# Altium footprint library aiskylab-08Optoelectronics.PcbLib: 57 footprints (part 2 of 4)
Each footprint in its own frame and in the unit in brackets; x right, y up, seen from the top. Pads: shape width x height; smd on the part's side, far side on the other; paste and mask are expansions set on the pad; w line width, h text height; cw(c..) or ccw(c..) is an arc to the next point about the centre after c.
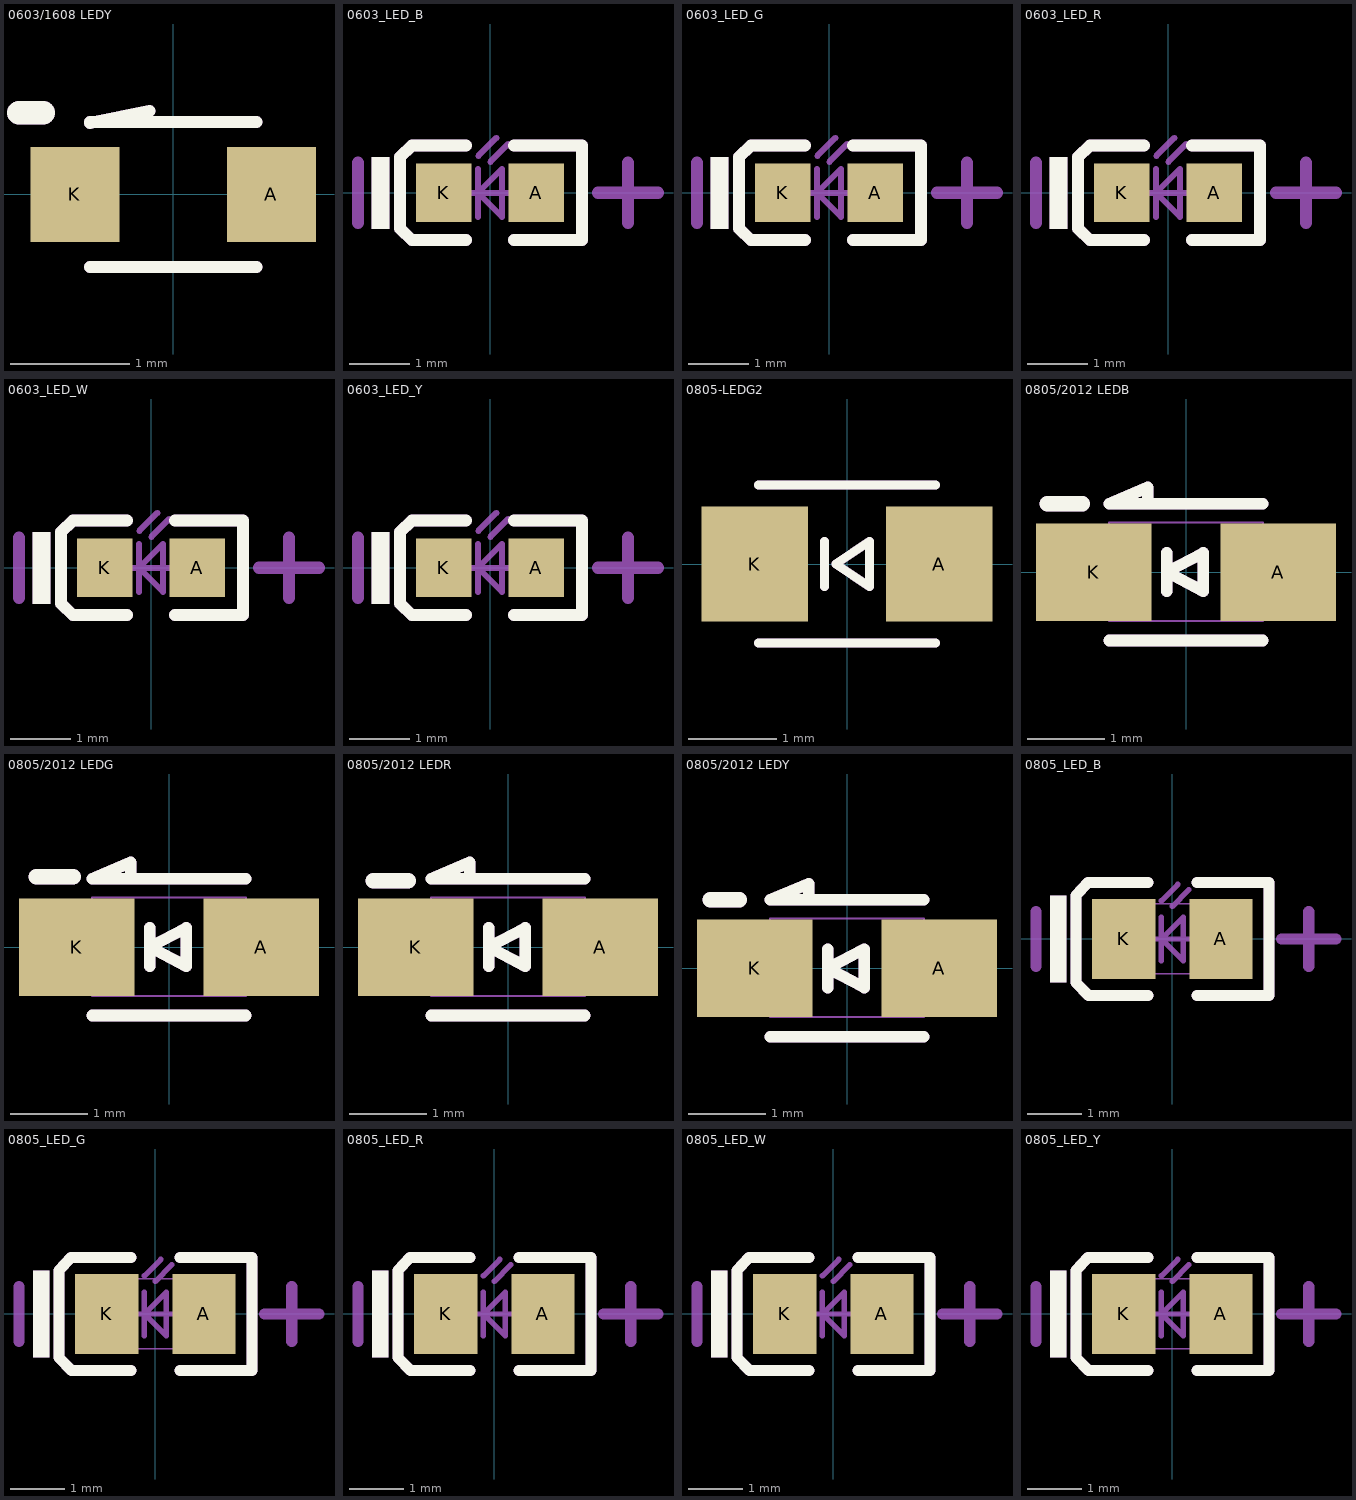
[diagram p1: the footprints below, top view; thin cyan lines are the x and y axes]

## 0603/1608 LEDY [mm]
height 3.1
pads (2):
  rect 0.75x0.8 smd: A(0.826,0) K(-0.826,0)
Top Overlay:
  lines w0.1: -0.7,-0.61 0.7,-0.61 ; -0.7,0.6 -0.2,0.7 ; -0.7,0.61 0.7,0.61
  lines w0.2: -1.295,0.686 -1.092,0.686
Top Designator:
  text ".Designator" at -7.664,-0.445 h1.52
Top Assembly:
  lines w0.1: -0.7,-0.61 0.7,-0.61 ; -0.7,0.6 -0.2,0.7 ; -0.7,0.61 0.7,0.61
  lines w0.2: -1.295,0.686 -1.092,0.686
Top Component Outline:
  lines w0.1: -0.7,-0.61 0.7,-0.61 ; -0.7,0.6 -0.2,0.7 ; -0.7,0.61 0.7,0.61
  lines w0.2: -1.295,0.686 -1.092,0.686
3D body "0_8128-0_762-0603.stp": height 0.02, standoff 0, extent -1.207,-0.406 -0.445,0.407
3D body "0_8128-0_762-0603.stp": height 0.02, standoff 0, extent 0.444,-0.406 1.206,0.406
3D body "0603-led-y.stp": height 0.79, standoff 0, extent -0.8,-0.4 0.8,0.4

## 0603_LED_B [mm]
pads (2):
  rect 0.93x0.98 smd: A(0.77,0) K(-0.77,0)
Top Overlay:
  rectangle: -1.975,-0.6 -1.675,0.6
  lines w0.2: -0.4,-0.79 -1.3,-0.79 -1.5,-0.597 -1.5,0.597 -1.3,0.79 -0.4,0.79 ; 0.4,-0.79 1.535,-0.79 1.535,0.79 0.4,0.79
Top Designator:
  text ".Designator" at -7.318,-0.469 h1.52
Top Assembly:
  rectangle: -1.975,-0.6 -1.675,0.6
  lines w0.2: -0.4,-0.79 -1.3,-0.79 -1.5,-0.597 -1.5,0.597 -1.3,0.79 -0.4,0.79 ; 0.4,-0.79 1.535,-0.79 1.535,0.79 0.4,0.79
  lines w0.203: -2.2,-0.5 -2.2,0.5 ; 1.8,0 2.8,0 ; 2.3,-0.5 2.3,0.5
Top Component Outline:
  rectangle: -1.975,-0.6 -1.675,0.6
  lines w0.2: -0.4,-0.79 -1.3,-0.79 -1.5,-0.597 -1.5,0.597 -1.3,0.79 -0.4,0.79 ; 0.4,-0.79 1.535,-0.79 1.535,0.79 0.4,0.79
Top 3D Body:
  lines w0.1: -0.4,0 0.4,0 ; -0.2,-0.4 -0.2,0.4 ; -0.195,0.617 0.105,0.917 ; 0.005,0.517 0.305,0.817 ; -0.2,0 0.2,-0.4 0.2,0.4 -0.2,0
3D body "0_8128-0_762-0603.stp": height 0.02, standoff 0, extent -1.207,-0.406 -0.445,0.407
3D body "0_8128-0_762-0603.stp": height 0.02, standoff 0, extent 0.444,-0.406 1.206,0.406
3D body "0603-ledb.stp": height 0.35, standoff 0, extent -0.8,-0.4 0.8,0.4

## 0603_LED_G [mm]
pads (2):
  rect 0.93x0.98 smd: A(0.77,0) K(-0.77,0)
Top Overlay:
  rectangle: -1.975,-0.6 -1.675,0.6
  lines w0.2: -0.4,-0.79 -1.3,-0.79 -1.5,-0.597 -1.5,0.597 -1.3,0.79 -0.4,0.79 ; 0.4,-0.79 1.535,-0.79 1.535,0.79 0.4,0.79
Top Designator:
  text ".Designator" at -7.318,-0.469 h1.52
Top Assembly:
  rectangle: -1.975,-0.6 -1.675,0.6
  lines w0.2: -0.4,-0.79 -1.3,-0.79 -1.5,-0.597 -1.5,0.597 -1.3,0.79 -0.4,0.79 ; 0.4,-0.79 1.535,-0.79 1.535,0.79 0.4,0.79
  lines w0.203: -2.2,-0.5 -2.2,0.5 ; 1.8,0 2.8,0 ; 2.3,-0.5 2.3,0.5
Top Component Outline:
  rectangle: -1.975,-0.6 -1.675,0.6
  lines w0.2: -0.4,-0.79 -1.3,-0.79 -1.5,-0.597 -1.5,0.597 -1.3,0.79 -0.4,0.79 ; 0.4,-0.79 1.535,-0.79 1.535,0.79 0.4,0.79
Top 3D Body:
  lines w0.1: -0.4,0 0.4,0 ; -0.2,-0.4 -0.2,0.4 ; -0.195,0.617 0.105,0.917 ; 0.005,0.517 0.305,0.817 ; -0.2,0 0.2,-0.4 0.2,0.4 -0.2,0
3D body "0_8128-0_762-0603.stp": height 0.02, standoff 0, extent -1.207,-0.406 -0.445,0.407
3D body "0_8128-0_762-0603.stp": height 0.02, standoff 0, extent 0.444,-0.406 1.206,0.406
3D body "0603-ledg.stp": height 0.35, standoff 0, extent -0.8,-0.4 0.8,0.4

## 0603_LED_R [mm]
pads (2):
  rect 0.93x0.98 smd: A(0.77,0) K(-0.77,0)
Top Overlay:
  rectangle: -1.975,-0.6 -1.675,0.6
  lines w0.2: -0.4,-0.79 -1.3,-0.79 -1.5,-0.597 -1.5,0.597 -1.3,0.79 -0.4,0.79 ; 0.4,-0.79 1.535,-0.79 1.535,0.79 0.4,0.79
Top Designator:
  text ".Designator" at -7.318,-0.469 h1.52
Top Assembly:
  rectangle: -1.975,-0.6 -1.675,0.6
  lines w0.2: -0.4,-0.79 -1.3,-0.79 -1.5,-0.597 -1.5,0.597 -1.3,0.79 -0.4,0.79 ; 0.4,-0.79 1.535,-0.79 1.535,0.79 0.4,0.79
  lines w0.203: -2.2,-0.5 -2.2,0.5 ; 1.8,0 2.8,0 ; 2.3,-0.5 2.3,0.5
Top Component Outline:
  rectangle: -1.975,-0.6 -1.675,0.6
  lines w0.2: -0.4,-0.79 -1.3,-0.79 -1.5,-0.597 -1.5,0.597 -1.3,0.79 -0.4,0.79 ; 0.4,-0.79 1.535,-0.79 1.535,0.79 0.4,0.79
Top 3D Body:
  lines w0.1: -0.4,0 0.4,0 ; -0.2,-0.4 -0.2,0.4 ; -0.195,0.617 0.105,0.917 ; 0.005,0.517 0.305,0.817 ; -0.2,0 0.2,0.4 0.2,-0.4 -0.2,0
3D body "0_8128-0_762-0603.stp": height 0.02, standoff 0, extent -1.207,-0.406 -0.445,0.407
3D body "0_8128-0_762-0603.stp": height 0.02, standoff 0, extent 0.444,-0.406 1.206,0.406
3D body "User Library-LED_0603_R.STEP": height 0.6, standoff 0, extent -0.8,-0.4 0.8,0.4

## 0603_LED_W [mm]
pads (2):
  rect 0.93x0.98 smd: A(0.77,0) K(-0.77,0)
Top Overlay:
  rectangle: -1.975,-0.6 -1.675,0.6
  lines w0.2: -0.4,-0.79 -1.3,-0.79 -1.5,-0.597 -1.5,0.597 -1.3,0.79 -0.4,0.79 ; 0.4,-0.79 1.535,-0.79 1.535,0.79 0.4,0.79
Top Designator:
  text ".Designator" at -7.318,-0.469 h1.52
Top Assembly:
  rectangle: -1.975,-0.6 -1.675,0.6
  lines w0.2: -0.4,-0.79 -1.3,-0.79 -1.5,-0.597 -1.5,0.597 -1.3,0.79 -0.4,0.79 ; 0.4,-0.79 1.535,-0.79 1.535,0.79 0.4,0.79
  lines w0.203: -2.2,-0.5 -2.2,0.5 ; 1.8,0 2.8,0 ; 2.3,-0.5 2.3,0.5
Top Component Outline:
  rectangle: -1.975,-0.6 -1.675,0.6
  lines w0.2: -0.4,-0.79 -1.3,-0.79 -1.5,-0.597 -1.5,0.597 -1.3,0.79 -0.4,0.79 ; 0.4,-0.79 1.535,-0.79 1.535,0.79 0.4,0.79
Top 3D Body:
  lines w0.1: -0.4,0 0.4,0 ; -0.2,-0.4 -0.2,0.4 ; -0.195,0.617 0.105,0.917 ; 0.005,0.517 0.305,0.817 ; -0.2,0 0.2,0.4 0.2,-0.4 -0.2,0
3D body "0_8128-0_762-0603.stp": height 0.02, standoff 0, extent -1.207,-0.406 -0.445,0.407
3D body "0_8128-0_762-0603.stp": height 0.02, standoff 0, extent 0.444,-0.406 1.206,0.406
3D body "User Library-LED SMD0603-W.step": height 0.68, standoff 0, extent -0.833,-0.357 0.817,0.368

## 0603_LED_Y [mm]
pads (2):
  rect 0.93x0.98 smd: A(0.77,0) K(-0.77,0)
Top Overlay:
  rectangle: -1.975,-0.6 -1.675,0.6
  lines w0.2: -0.4,-0.79 -1.3,-0.79 -1.5,-0.597 -1.5,0.597 -1.3,0.79 -0.4,0.79 ; 0.4,-0.79 1.535,-0.79 1.535,0.79 0.4,0.79
Top Designator:
  text ".Designator" at -7.318,-0.469 h1.52
Top Assembly:
  rectangle: -1.975,-0.6 -1.675,0.6
  lines w0.2: -0.4,-0.79 -1.3,-0.79 -1.5,-0.597 -1.5,0.597 -1.3,0.79 -0.4,0.79 ; 0.4,-0.79 1.535,-0.79 1.535,0.79 0.4,0.79
  lines w0.203: -2.2,-0.5 -2.2,0.5 ; 1.8,0 2.8,0 ; 2.3,-0.5 2.3,0.5
Top Component Outline:
  rectangle: -1.975,-0.6 -1.675,0.6
  lines w0.2: -0.4,-0.79 -1.3,-0.79 -1.5,-0.597 -1.5,0.597 -1.3,0.79 -0.4,0.79 ; 0.4,-0.79 1.535,-0.79 1.535,0.79 0.4,0.79
Top 3D Body:
  lines w0.1: -0.4,0 0.4,0 ; -0.2,-0.4 -0.2,0.4 ; -0.195,0.617 0.105,0.917 ; 0.005,0.517 0.305,0.817 ; -0.2,0 0.2,-0.4 0.2,0.4 -0.2,0
3D body "0_8128-0_762-0603.stp": height 0.02, standoff 0, extent -1.207,-0.406 -0.445,0.407
3D body "0_8128-0_762-0603.stp": height 0.02, standoff 0, extent 0.444,-0.406 1.206,0.406
3D body "0603-led-y.stp": height 0.79, standoff 0, extent -0.8,-0.4 0.8,0.4

## 0805-LEDG2 [mm]
height 3.1
pads (2):
  rect 1.2x1.3 smd: A(1.041,0) K(-1.041,0)
Top Overlay:
  lines w0.1: -0.254,-0.254 -0.254,0.254 ; -0.127,0 0.254,0.254 0.254,-0.254 -0.127,0
  lines w0.102: -1,-0.889 1,-0.889 ; -1,0.889 1,0.889
Top Designator:
  text ".Designator" at -7.618,-0.508 h1.52
Top Assembly:
  lines w0.1: -0.254,-0.254 -0.254,0.254 ; -0.127,0 0.254,0.254 0.254,-0.254 -0.127,0
  lines w0.102: -1,-0.889 1,-0.889 ; -1,0.889 1,0.889
Top Component Outline:
  lines w0.1: -0.254,-0.254 -0.254,0.254 ; -0.127,0 0.254,0.254 0.254,-0.254 -0.127,0
  lines w0.102: -1,-0.889 1,-0.889 ; -1,0.889 1,0.889
3D body "1206-led-g.stp": height 1.39, standoff 0, extent -1.6,-0.808 1.6,0.808

## 0805/2012 LEDB [mm]
height 3.1
pads (2):
  rect 1.5x1.27 smd: A(1.2,0)
  rect 1.5x1.27 smd mask+0.07: K(-1.2,0)
Top Overlay:
  lines w0.15: -1,-0.889 1,-0.889 ; -0.5,1.1 -1,0.889 ; -0.25,-0.25 -0.25,0.25 ; 1,0.889 -1,0.889 ; -1,0.889 -0.5,0.889 ; -0.5,0.889 -0.5,1.097 -0.5,0.889 ; -0.25,0 0.225,0.25 0.225,-0.25 -0.25,0
  lines w0.2: -1.803,0.889 -1.346,0.889
Top Designator:
  text ".Designator" at -7.602,-0.402 h1.52
Top Assembly:
  lines w0.15: -1,-0.889 1,-0.889 ; -0.5,1.1 -1,0.889 ; -0.25,-0.25 -0.25,0.25 ; 1,0.889 -1,0.889 ; -1,0.889 -0.5,0.889 ; -0.5,0.889 -0.5,1.097 -0.5,0.889 ; -0.25,0 0.225,0.25 0.225,-0.25 -0.25,0
  lines w0.2: -1.803,0.889 -1.346,0.889
Top Component Outline:
  lines w0.15: -1,-0.889 1,-0.889 ; -0.5,1.1 -1,0.889 ; -0.25,-0.25 -0.25,0.25 ; 1,0.889 -1,0.889 ; -1,0.889 -0.5,0.889 ; -0.5,0.889 -0.5,1.097 -0.5,0.889 ; -0.25,0 0.225,0.25 0.225,-0.25 -0.25,0
  lines w0.2: -1.803,0.889 -1.346,0.889
Top 3D Body:
  lines w0.025: -1.003,-0.635 -1.003,0.648 1.003,0.648 1.003,-0.635 -1.003,-0.635
3D body "0805B.stp": height 1.09, standoff 0, extent -1,-0.625 1,0.625
3D body "0805_1016_127.stp": height 0.01, standoff 0, extent -1.908,-0.635 -0.892,0.635
3D body "0805_1016_127.stp": height 0.01, standoff 0, extent 0.892,-0.635 1.908,0.635

## 0805/2012 LEDG [mm]
height 3.1
pads (2):
  rect 1.5x1.27 smd: A(1.2,0)
  rect 1.5x1.27 smd mask+0.07: K(-1.2,0)
Top Overlay:
  lines w0.15: -1,-0.889 1,-0.889 ; -0.5,1.1 -1,0.889 ; -0.25,-0.25 -0.25,0.25 ; 1,0.889 -1,0.889 ; -1,0.889 -0.5,0.889 ; -0.5,0.889 -0.5,1.097 -0.5,0.889 ; -0.25,0 0.225,0.25 0.225,-0.25 -0.25,0
  lines w0.2: -1.727,0.914 -1.245,0.914
Top Designator:
  text ".Designator" at -7.602,-0.402 h1.52
Top Assembly:
  lines w0.15: -1,-0.889 1,-0.889 ; -0.5,1.1 -1,0.889 ; -0.25,-0.25 -0.25,0.25 ; 1,0.889 -1,0.889 ; -1,0.889 -0.5,0.889 ; -0.5,0.889 -0.5,1.097 -0.5,0.889 ; -0.25,0 0.225,0.25 0.225,-0.25 -0.25,0
  lines w0.2: -1.727,0.914 -1.245,0.914
Top Component Outline:
  lines w0.15: -1,-0.889 1,-0.889 ; -0.5,1.1 -1,0.889 ; -0.25,-0.25 -0.25,0.25 ; 1,0.889 -1,0.889 ; -1,0.889 -0.5,0.889 ; -0.5,0.889 -0.5,1.097 -0.5,0.889 ; -0.25,0 0.225,0.25 0.225,-0.25 -0.25,0
  lines w0.2: -1.727,0.914 -1.245,0.914
Top 3D Body:
  lines w0.025: -1.003,-0.635 1.003,-0.635 1.003,0.648 -1.003,0.648 -1.003,-0.635
3D body "0805G.stp": height 1.09, standoff 0, extent -1,-0.625 1,0.625
3D body "0805_1016_127.stp": height 0.01, standoff 0, extent -1.916,-0.635 -0.9,0.635
3D body "0805_1016_127.stp": height 0.01, standoff 0, extent 0.892,-0.635 1.908,0.635

## 0805/2012 LEDR [mm]
height 3.1
pads (2):
  rect 1.5x1.27 smd: A(1.2,0)
  rect 1.5x1.27 smd mask+0.07: K(-1.2,0)
Top Overlay:
  lines w0.15: -1,-0.889 1,-0.889 ; -0.5,0.889 -0.5,1.097 ; -0.5,1.1 -1,0.889 1,0.889 ; -0.25,-0.25 -0.25,0.25 ; -0.25,0 0.225,-0.25 0.225,0.25 -0.25,0
  lines w0.2: -1.753,0.864 -1.295,0.864
Top Solder:
  lines w0.15: -1,0.889 -0.5,0.889 -0.5,1.097
Top Designator:
  text ".Designator" at -7.602,-0.402 h1.52
Top Assembly:
  lines w0.15: -1,-0.889 1,-0.889 ; -0.5,0.889 -0.5,1.097 ; -0.5,1.1 -1,0.889 1,0.889 ; -0.25,-0.25 -0.25,0.25 ; -0.25,0 0.225,-0.25 0.225,0.25 -0.25,0
  lines w0.2: -1.753,0.864 -1.295,0.864
Top Component Outline:
  lines w0.15: -1,-0.889 1,-0.889 ; -0.5,0.889 -0.5,1.097 ; -0.5,1.1 -1,0.889 1,0.889 ; -0.25,-0.25 -0.25,0.25 ; -0.25,0 0.225,-0.25 0.225,0.25 -0.25,0
  lines w0.2: -1.753,0.864 -1.295,0.864
Top 3D Body:
  lines w0.025: -1.003,-0.635 1.003,-0.635 1.003,0.648 -1.003,0.648 -1.003,-0.635
3D body "0805R.stp": height 1.09, standoff 0, extent -1,-0.625 1,0.625
3D body "0805_1016_127.stp": height 0.01, standoff 0, extent -1.908,-0.635 -0.892,0.635
3D body "0805_1016_127.stp": height 0.01, standoff 0, extent 0.892,-0.635 1.908,0.635

## 0805/2012 LEDY [mm]
height 3.1
pads (2):
  rect 1.5x1.27 smd: A(1.2,0)
  rect 1.5x1.27 smd mask+0.07: K(-1.2,0)
Top Overlay:
  lines w0.15: -1,-0.889 1,-0.889 ; -0.5,1.1 -1,0.889 ; -0.25,-0.25 -0.25,0.25 ; 1,0.889 -1,0.889 ; -1,0.889 -0.5,0.889 ; -0.5,0.889 -0.5,1.097 -0.5,0.889 ; -0.25,0 0.225,-0.25 0.225,0.25 -0.25,0
  lines w0.2: -1.778,0.889 -1.397,0.889
Top Designator:
  text ".Designator" at -7.602,-0.402 h1.52
Top Assembly:
  lines w0.15: -1,-0.889 1,-0.889 ; -0.5,1.1 -1,0.889 ; -0.25,-0.25 -0.25,0.25 ; 1,0.889 -1,0.889 ; -1,0.889 -0.5,0.889 ; -0.5,0.889 -0.5,1.097 -0.5,0.889 ; -0.25,0 0.225,-0.25 0.225,0.25 -0.25,0
  lines w0.2: -1.778,0.889 -1.397,0.889
Top Component Outline:
  lines w0.15: -1,-0.889 1,-0.889 ; -0.5,1.1 -1,0.889 ; -0.25,-0.25 -0.25,0.25 ; 1,0.889 -1,0.889 ; -1,0.889 -0.5,0.889 ; -0.5,0.889 -0.5,1.097 -0.5,0.889 ; -0.25,0 0.225,-0.25 0.225,0.25 -0.25,0
  lines w0.2: -1.778,0.889 -1.397,0.889
Top 3D Body:
  lines w0.025: -1.003,-0.635 1.003,-0.635 1.003,0.648 -1.003,0.648 -1.003,-0.635
3D body "0805h.stp": height 1.09, standoff 0, extent -1,-0.625 1,0.625
3D body "0805_1016_127.stp": height 0.01, standoff 0, extent -1.908,-0.635 -0.892,0.635
3D body "0805_1016_127.stp": height 0.01, standoff 0, extent 0.892,-0.635 1.908,0.635

## 0805_LED_B [mm]
pads (2):
  rect 1.16x1.47 smd: A(0.89,0) K(-0.89,0)
Top Overlay:
  rectangle: -2.245,-0.8 -1.945,0.8
  lines w0.2: -0.45,-1.035 -1.535,-1.035 -1.77,-0.8 -1.77,0.8 -1.55,1.035 -0.45,1.035 ; 0.45,-1.035 1.77,-1.035 1.77,1.035 0.45,1.035
Top Designator:
  text ".Designator" at -7.368,-0.508 h1.52
Top Assembly:
  rectangle: -2.245,-0.8 -1.945,0.8
  lines w0.2: -0.45,-1.035 -1.535,-1.035 -1.77,-0.8 -1.77,0.8 -1.55,1.035 -0.45,1.035 ; 0.45,-1.035 1.77,-1.035 1.77,1.035 0.45,1.035
  lines w0.203: -2.5,-0.5 -2.5,0.5 ; 2,0 3,0 ; 2.5,-0.5 2.5,0.5
Top Component Outline:
  rectangle: -2.245,-0.8 -1.945,0.8
  lines w0.2: -0.45,-1.035 -1.535,-1.035 -1.77,-0.8 -1.77,0.8 -1.55,1.035 -0.45,1.035 ; 0.45,-1.035 1.77,-1.035 1.77,1.035 0.45,1.035
Top 3D Body:
  lines w0.025: -1.003,-0.635 -1.003,0.648 1.003,0.648 1.003,-0.635 -1.003,-0.635
  lines w0.1: -0.4,0 0.4,0 ; -0.2,-0.4 -0.2,0.4 ; -0.2,0.7 0.1,1 ; 0,0.6 0.3,0.9 ; -0.2,0 0.2,0.4 0.2,-0.4 -0.2,0
3D body "0805B.stp": height 1.09, standoff 0, extent -1,-0.625 1,0.625
3D body "0805_1016_127.stp": height 0.01, standoff 0, extent -1.908,-0.635 -0.892,0.635
3D body "0805_1016_127.stp": height 0.01, standoff 0, extent 0.892,-0.635 1.908,0.635

## 0805_LED_G [mm]
pads (2):
  rect 1.16x1.47 smd: A(0.89,0) K(-0.89,0)
Top Overlay:
  rectangle: -2.245,-0.8 -1.945,0.8
  lines w0.2: -0.45,-1.035 -1.535,-1.035 -1.77,-0.8 -1.77,0.8 -1.55,1.035 -0.45,1.035 ; 0.45,-1.035 1.77,-1.035 1.77,1.035 0.45,1.035
Top Designator:
  text ".Designator" at -7.368,-0.508 h1.52
Top Assembly:
  rectangle: -2.245,-0.8 -1.945,0.8
  lines w0.2: -0.45,-1.035 -1.535,-1.035 -1.77,-0.8 -1.77,0.8 -1.55,1.035 -0.45,1.035 ; 0.45,-1.035 1.77,-1.035 1.77,1.035 0.45,1.035
  lines w0.203: -2.5,-0.5 -2.5,0.5 ; 2,0 3,0 ; 2.5,-0.5 2.5,0.5
Top Component Outline:
  rectangle: -2.245,-0.8 -1.945,0.8
  lines w0.2: -0.45,-1.035 -1.535,-1.035 -1.77,-0.8 -1.77,0.8 -1.55,1.035 -0.45,1.035 ; 0.45,-1.035 1.77,-1.035 1.77,1.035 0.45,1.035
Top 3D Body:
  lines w0.025: -1.003,-0.635 1.003,-0.635 1.003,0.648 -1.003,0.648 -1.003,-0.635
  lines w0.1: -0.4,0 0.4,0 ; -0.2,-0.4 -0.2,0.4 ; -0.2,0.7 0.1,1 ; 0,0.6 0.3,0.9 ; -0.2,0 0.2,-0.4 0.2,0.4 -0.2,0
3D body "0805G.stp": height 1.09, standoff 0, extent -1,-0.625 1,0.625
3D body "0805_1016_127.stp": height 0.01, standoff 0, extent -1.916,-0.635 -0.9,0.635
3D body "0805_1016_127.stp": height 0.01, standoff 0, extent 0.892,-0.635 1.908,0.635

## 0805_LED_R [mm]
pads (2):
  rect 1.16x1.47 smd: A(0.89,0) K(-0.89,0)
Top Overlay:
  rectangle: -2.245,-0.8 -1.945,0.8
  lines w0.2: -0.45,-1.035 -1.535,-1.035 -1.77,-0.8 -1.77,0.8 -1.55,1.035 -0.45,1.035 ; 0.45,-1.035 1.77,-1.035 1.77,1.035 0.45,1.035
Top Designator:
  text ".Designator" at -7.368,-0.508 h1.52
Top Assembly:
  rectangle: -2.245,-0.8 -1.945,0.8
  lines w0.2: -0.45,-1.035 -1.535,-1.035 -1.77,-0.8 -1.77,0.8 -1.55,1.035 -0.45,1.035 ; 0.45,-1.035 1.77,-1.035 1.77,1.035 0.45,1.035
  lines w0.203: -2.5,-0.5 -2.5,0.5 ; 2,0 3,0 ; 2.5,-0.5 2.5,0.5
Top Component Outline:
  rectangle: -2.245,-0.8 -1.945,0.8
  lines w0.2: -0.45,-1.035 -1.535,-1.035 -1.77,-0.8 -1.77,0.8 -1.55,1.035 -0.45,1.035 ; 0.45,-1.035 1.77,-1.035 1.77,1.035 0.45,1.035
Top 3D Body:
  lines w0.1: -0.4,0 0.4,0 ; -0.2,-0.4 -0.2,0.4 ; -0.2,0.7 0.1,1 ; 0,0.6 0.3,0.9 ; -0.2,0 0.2,-0.4 0.2,0.4 -0.2,0
3D body "0805_1016_127.stp": height 0.01, standoff 0, extent 0.892,-0.635 1.908,0.635
3D body "0805_1016_127.stp": height 0.01, standoff 0, extent -1.908,-0.635 -0.892,0.635
3D body "User Library-led_0805.step": height 1.1, standoff 0, extent -1.01,-0.625 1.01,0.625

## 0805_LED_W [mm]
pads (2):
  rect 1.16x1.47 smd: A(0.89,0) K(-0.89,0)
Top Overlay:
  rectangle: -2.245,-0.8 -1.945,0.8
  lines w0.2: -0.45,-1.035 -1.535,-1.035 -1.77,-0.8 -1.77,0.8 -1.55,1.035 -0.45,1.035 ; 0.45,-1.035 1.77,-1.035 1.77,1.035 0.45,1.035
Top Designator:
  text ".Designator" at -7.368,-0.508 h1.52
Top Assembly:
  rectangle: -2.245,-0.8 -1.945,0.8
  lines w0.2: -0.45,-1.035 -1.535,-1.035 -1.77,-0.8 -1.77,0.8 -1.55,1.035 -0.45,1.035 ; 0.45,-1.035 1.77,-1.035 1.77,1.035 0.45,1.035
  lines w0.203: -2.5,-0.5 -2.5,0.5 ; 2,0 3,0 ; 2.5,-0.5 2.5,0.5
Top Component Outline:
  rectangle: -2.245,-0.8 -1.945,0.8
  lines w0.2: -0.45,-1.035 -1.535,-1.035 -1.77,-0.8 -1.77,0.8 -1.55,1.035 -0.45,1.035 ; 0.45,-1.035 1.77,-1.035 1.77,1.035 0.45,1.035
Top 3D Body:
  lines w0.1: -0.4,0 0.4,0 ; -0.2,-0.4 -0.2,0.4 ; -0.2,0.7 0.1,1 ; 0,0.6 0.3,0.9 ; -0.2,0 0.2,-0.4 0.2,0.4 -0.2,0
3D body "User Library-LED SMD0805-W.step": height 0.85, standoff 0.01, extent -1.041,-0.447 1.022,0.46
3D body "0805_1016_127.stp": height 0.01, standoff 0, extent -1.908,-0.635 -0.892,0.635
3D body "0805_1016_127.stp": height 0.01, standoff 0, extent 0.892,-0.635 1.908,0.635

## 0805_LED_Y [mm]
pads (2):
  rect 1.16x1.47 smd: A(0.89,0) K(-0.89,0)
Top Overlay:
  rectangle: -2.245,-0.8 -1.945,0.8
  lines w0.2: -0.45,-1.035 -1.535,-1.035 -1.77,-0.8 -1.77,0.8 -1.55,1.035 -0.45,1.035 ; 0.45,-1.035 1.77,-1.035 1.77,1.035 0.45,1.035
Top Designator:
  text ".Designator" at -7.368,-0.508 h1.52
Top Assembly:
  rectangle: -2.245,-0.8 -1.945,0.8
  lines w0.2: -0.45,-1.035 -1.535,-1.035 -1.77,-0.8 -1.77,0.8 -1.55,1.035 -0.45,1.035 ; 0.45,-1.035 1.77,-1.035 1.77,1.035 0.45,1.035
  lines w0.203: -2.5,-0.5 -2.5,0.5 ; 2,0 3,0 ; 2.5,-0.5 2.5,0.5
Top Component Outline:
  rectangle: -2.245,-0.8 -1.945,0.8
  lines w0.2: -0.45,-1.035 -1.535,-1.035 -1.77,-0.8 -1.77,0.8 -1.55,1.035 -0.45,1.035 ; 0.45,-1.035 1.77,-1.035 1.77,1.035 0.45,1.035
Top 3D Body:
  lines w0.025: -1.003,-0.635 1.003,-0.635 1.003,0.648 -1.003,0.648 -1.003,-0.635
  lines w0.1: -0.4,0 0.4,0 ; -0.2,-0.4 -0.2,0.4 ; -0.2,0.7 0.1,1 ; 0,0.6 0.3,0.9 ; -0.2,0 0.2,-0.4 0.2,0.4 -0.2,0
3D body "0805h.stp": height 1.09, standoff 0, extent -1,-0.625 1,0.625
3D body "0805_1016_127.stp": height 0.01, standoff 0, extent -1.908,-0.635 -0.892,0.635
3D body "0805_1016_127.stp": height 0.01, standoff 0, extent 0.892,-0.635 1.908,0.635